# EAGLE library part TL072 (library #PaJa_30_scr)
OZ - JFET - 2x
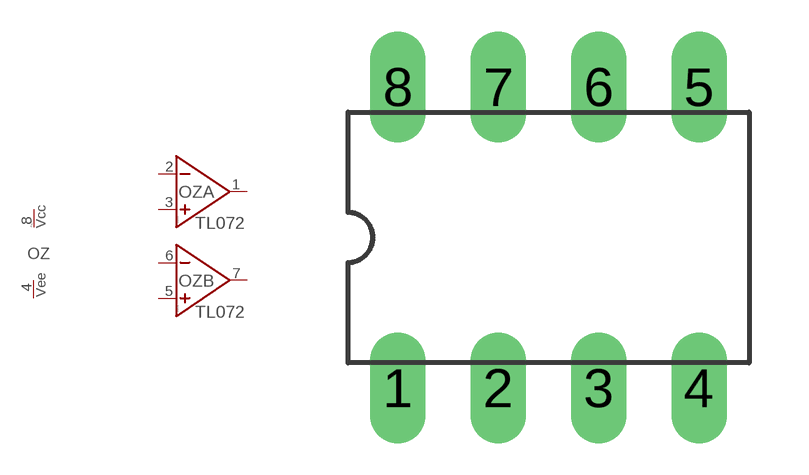
[diagram p7: symbol with the pads of DIL8; footprint DIL8]

Designator prefix OZ; gates NS=POWER_SY A=OZ B=OZ

## TL072  [DIL8]
1  A:VYSTUP  out
2  A:IN-  in
3  A:NEIN+  in
4  NS:VEE  pwr
5  B:NEIN+  in
6  B:IN-  in
7  B:VYSTUP  out
8  NS:VCC  pwr

## Footprint DIL8 (pad centres in mm)
drill 0.813 pad 1.4 long: 1 -3.81,-3.81; 2 -1.27,-3.81; 3 1.27,-3.81; 4 3.81,-3.81; 5 3.81,3.81; 6 1.27,3.81; 7 -1.27,3.81; 8 -3.81,3.81